# Altium footprint library SparkFun-Connectors.PCBLIB: 379 footprints (part 15 of 24)
Each footprint in its own frame and in the unit in brackets; x right, y up, seen from the top. Pads: shape width x height; smd on the part's side, far side on the other; paste and mask are expansions set on the pad; w line width, h text height; cw(c..) or ccw(c..) is an arc to the next point about the centre after c.
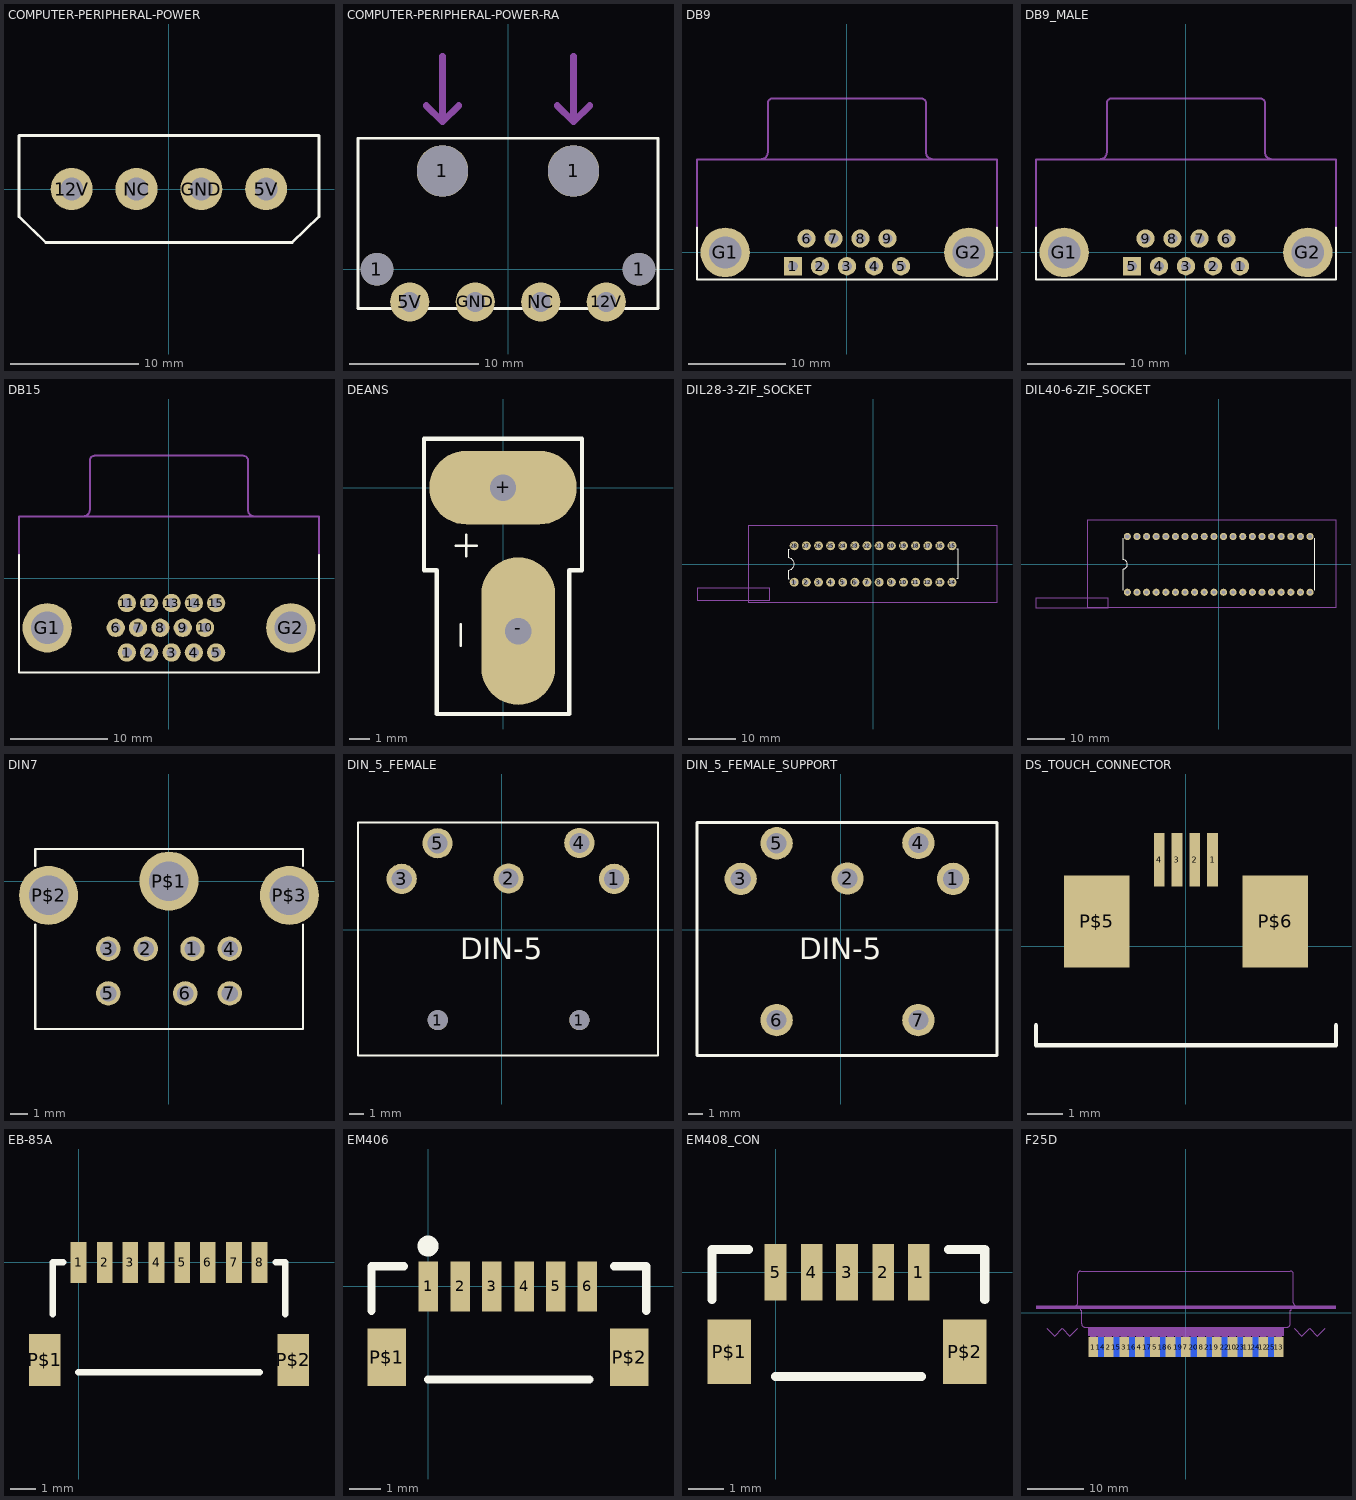
[diagram p14: the footprints below, top view; thin cyan lines are the x and y axes]

## COMPUTER-PERIPHERAL-POWER [mil]
pads (4):
  round 130 hole 70: 5V(300,0) 12V(-300,0) GND(100,0) NC(-100,0)
Top Overlay:
  lines w8: -462.5,-85 -380,-165 380,-165 463,-85 463,165 -462.5,165 -462.5,-85

## COMPUTER-PERIPHERAL-POWER-RA [mil]
pads (8):
  round 100 hole 100: 1(-400,0) 1(400,0)
  round 157 hole 157: 1(-200,300) 1(200,300)
  round 120 hole 60: 5V(-300,-100) 12V(300,-100) GND(-100,-100) NC(100,-100)
Top Overlay:
  lines w8: -350,-120 -458,-120 -458,400 458,400 458,-120 350,-120 ; -250,-120 -150,-120 ; -50,-120 50,-120 ; 150,-120 250,-120
Mechanical 16:
  lines w8: -458,-120 458,-120
  lines w20: -250,500 -200,450 ; -200,650 -200,450 ; -150,500 -200,450 ; 150,500 200,450 ; 200,650 200,450 ; 250,500 200,450
  text "INSERT" at -120,525 h77.5

## DB9 [mil]
pads (11):
  rect 74x74 hole 40: 1(-218.11,-55.91)
  round 74 hole 40: 2(-109.06,-55.91) 3(0,-55.91) 4(110,-55.91) 5(219,-55.91) 6(-163.39,56) 7(-54.33,56) 8(55,56) 9(164,56)
  round 200 hole 130: G1(-492.13,0) G2(493,0)
Top Overlay:
  lines w8: -606.3,100 -606.3,-110.24 607,-110.24 607,100
Mechanical 2:
  text ">NAME" at -31.3,104 h24.8
Mechanical 4:
  text ">VALUE" at -27.17,135 h24.8
Mechanical 16:
  lines w8: -606.3,101 -606.3,375 607,375 607,100 ; -345,378 ccw(c-345,403) -320,403 -320,603 cw(c-300,603) -300,623 300,623 cw(c300,603) 320,603 320,403 ccw(c345,403) 345,378

## DB9_MALE [mil]
pads (11):
  round 74 hole 40: 1(219,-55.91) 2(110,-55.91) 3(0,-55.91) 4(-109.06,-55.91) 6(164,56) 7(55,56) 8(-54.33,56) 9(-163.39,56)
  rect 74x74 hole 40: 5(-218.11,-55.91)
  round 200 hole 130: G1(-492.13,0) G2(493,0)
Top Overlay:
  lines w8: -606.3,100 -606.3,-110.24 607,-110.24 607,100
Mechanical 2:
  text ">NAME" at -31.3,104 h24.8
Mechanical 4:
  text ">VALUE" at -27.17,135 h24.8
Mechanical 16:
  lines w8: -606.3,101 -606.3,375 607,375 607,100 ; -345,378 ccw(c-345,403) -320,403 -320,603 cw(c-300,603) -300,623 300,623 cw(c300,603) 320,603 320,403 ccw(c345,403) 345,378

## DB15 [mil]
pads (17):
  round 74 hole 40: 1(-170.08,-300) 2(-79.92,-300) 3(11,-300) 4(101,-300) 5(191,-300) 6(-214.96,-200) 7(-124.8,-200) 8(-34.65,-200) 9(56,-200) 10(146,-200) 11(-170.08,-100) 12(-79.92,-100) 13(11,-100) 14(101,-100) 15(191,-100)
  round 200 hole 130: G1(-492.13,-200) G2(493,-200)
Top Overlay:
  lines w8: -606.3,94 -606.3,-379.92 607,-379.92 607,94
Mechanical 2:
  text ">NAME" at -31.3,-46.85 h24.8
Mechanical 4:
  text ">VALUE" at -27.17,-15.55 h24.8
Mechanical 16:
  lines w8: -606.3,94 -606.3,250 607,250 607,94 ; -345,251 ccw(c-345,276) -320,276 -320,476 cw(c-300,476) -300,496 300,496 cw(c300,476) 320,476 320,276 ccw(c345,276) 345,251

## DEANS [mil]
pads (2):
  oval 280x140 hole 50: +(0,0)
  oval 140x280 hole 50: -(29,-272.5)
Top Overlay:
  lines w5: -90,-110 -50,-110 ; -80,-300 -80,-260 ; -70,-130 -70,-90
  lines w8: -150,-157 -150,93 150,93 150,-157 126,-157 126,-430 -126,-430 -126,-157 -150,-157
Mechanical 1:
  lines w5: -112,-27 112,-27 112,27 -112,27 -112,-27 ; 2,-384 2,-160 56,-160 56,-384 2,-384

## DIL28-3-ZIF_SOCKET [mil]
pads (28):
  round 74 hole 40: 1(-650,-150) 2(-550,-150) 3(-450,-150) 4(-350,-150) 5(-250,-150) 6(-150,-150) 7(-50,-150) 8(50,-150) 9(150,-150) 10(250,-150) 11(350,-150) 12(450,-150) 13(550,-150) 14(650,-150) 15(650,150) 16(550,150) 17(450,150) 18(350,150) 19(250,150) 20(150,150) 21(50,150) 22(-50,150) 23(-150,150) 24(-250,150) 25(-350,150) 26(-450,150) 27(-550,150) 28(-650,150)
Top Overlay:
  lines w8: -690,-120 -700,-120 -700,-50 ccw(c-700,0) -700,50 -700,120 -690,120 ; 690,-120 700,-120 700,120 690,120
Mechanical 2:
  text ">NAME" at -600,0 h37.2
Mechanical 4:
  text ">VALUE" at -600,-50 h37.2
Mechanical 16:
  lines w5: -1027.99,-314.96 1020,-314.96 1020,315 -1027.99,315 -1027.99,-314.96
  lines w10: -1450,-300 -1450,-200 -850,-200 -850,-300 -1450,-300

## DIL40-6-ZIF_SOCKET [mil]
pads (40):
  round 74 hole 40: 1(-950,-290) 2(-850,-290) 3(-750,-290) 4(-650,-290) 5(-550,-290) 6(-450,-290) 7(-350,-290) 8(-250,-290) 9(-150,-290) 10(-50,-290) 11(50,-290) 12(150,-290) 13(250,-290) 14(350,-290) 15(450,-290) 16(550,-290) 17(650,-290) 18(750,-290) 19(850,-290) 20(950,-290) 21(950,290) 22(850,290) 23(750,290) 24(650,290) 25(550,290) 26(450,290) 27(350,290) 28(250,290)
  round 74 hole 44: 29(150,290) 30(50,290) 31(-50,290) 32(-150,290) 33(-250,290) 34(-350,290) 35(-450,290) 36(-550,290) 37(-650,290) 38(-750,290) 39(-850,290) 40(-950,290)
Top Overlay:
  lines w8: -1000,-270 -1000,-50 ccw(c-1000,0) -1000,50 -1000,270 ; 1000,-270 1000,270
Mechanical 2:
  text ">NAME" at -900,0 h37.2
Mechanical 4:
  text ">VALUE" at -900,-50 h37.2
Mechanical 16:
  lines w10: -1900,-450 -1900,-350 -1150,-350 -1150,-450 -1900,-450 ; -1368.58,-448.07 1220,-448.07 1220,458 -1368.58,458 -1368.58,-448.07

## DIN7 [mil]
pads (10):
  round 54 hole 36: 1(52,-149.61) 2(-51.18,-149.61) 3(-133.86,-149.61) 4(134,-149.61) 5(-133.86,-248.03) 6(36,-248.03) 7(134,-248.03)
  round 130.5 hole 87: P$1(0,0) P$2(-265.75,-31.5) P$3(266,-31.5)
Top Overlay:
  lines w5: -295.28,-96.46 -295.28,-326.77 296,-326.77 296,-96.46 ; -295.28,34 -295.28,71 296,71 296,34

## DIN_5_FEMALE [mil]
pads (7):
  round 56 hole 56: 1(-177.95,-251.18) 1(216,-251.18)
  round 84 hole 56: 1(313,142) 2(19,143) 3(-278.35,142) 4(216,242) 5(-178.35,241)
Top Overlay:
  lines w5: -400,-350 435,-350 435,299 -400,299 -400,-350
  text "DIN-5" at -115.75,-100.79 h102.3
Mechanical 16:
  lines w4: 18,142 19,142

## DIN_5_FEMALE_SUPPORT [mil]
pads (7):
  round 90 hole 56: 1(313,142) 2(19,143) 3(-278.35,142) 4(216,242) 5(-178.35,241) 6(-178.35,-251.27) 7(216,-251.27)
Top Overlay:
  lines w8: -400,-350 435,-350 435,299 -400,299 -400,-350
  text "DIN-5" at -115.75,-100.79 h102.3
Mechanical 16:
  lines w4: 18,142 19,142

## DS_TOUCH_CONNECTOR [mil]
pads (6):
  rect 12x60 smd: 1(30,97) 2(10,97) 3(-9.84,97) 4(-29.53,97)
  rect 73x103 smd: P$5(-99.41,28) P$6(100,28)
Top Overlay:
  lines w5: -167.32,-87.8 -167.32,-110.24 168,-110.24 168,-87.8
Mechanical 2:
  text ">NAME" at -153.35,-137.2 h24.8
Mechanical 4:
  text ">VALUE" at -154.13,-98.43 h24.8

## EB-85A [mil]
pads (10):
  rect 24x62 smd: 1(0,0) 2(40,0) 3(79,0) 4(119,0) 5(158,0) 6(197,0) 7(237,0) 8(276,0)
  rect 48x79 smd: P$1(-51.18,-148.62) P$2(327,-148.62)
Top Overlay:
  lines w10: -39.37,-78.74 -39.37,0 -23.62,0 ; 0,-167.32 276,-167.32 ; 301,0 315,0 315,-78.74
Mechanical 2:
  text ">Name" at 0,50 h24.8
Mechanical 4:
  text ">VALUE" at 150,50 h24.8

## EM406 [mil]
pads (8):
  rect 24x62 smd: 1(0,0) 2(40,0) 3(79,0) 4(119,0) 5(158,0) 6(197,0)
  rect 48x71 smd: P$1(-51.18,-87.6) P$2(249,-87.6)
Top Overlay:
  circle w16: c0,50 r5
  lines w10: -70,-30 -70,25 -30,25 ; 0,-115 200,-115 ; 230,25 270,25 270,-30
Mechanical 2:
  text ">Name" at 50,50 h24.8
Mechanical 4:
  text ">VALUE" at 50,-150 h24.8

## EM408_CON [mil]
pads (7):
  rect 24x62 smd: 1(158,0) 2(119,0) 3(79,0) 4(40,0) 5(0,0)
  rect 48x71 smd: P$1(-51.18,-87.6) P$2(209,-87.6)
Top Overlay:
  lines w10: -70,-30 -70,25 -30,25 ; 0,-115 161,-115 ; 191,25 231,25 231,-30
Mechanical 2:
  text ">NAME" at -50,50 h24.8
Mechanical 4:
  text ">VALUE" at 100,50 h24.8

## F25D [mil]
pads (25):
  rect 67x138 smd: 1(-648.01,-237.98) 2(-540,-237.99) 3(-431.99,-237.98) 4(-324.01,-237.98) 5(-215.99,-237.98) 6(-108.01,-237.98) 7(0,-237.99) 8(109,-237.98) 9(216,-237.98) 10(325,-237.98) 11(432,-237.98) 12(540,-237.99) 13(649,-237.98)
  rect 67x138 smd far side: 14(-594,-238) 15(-486,-238) 16(-378,-238) 17(-270,-238) 18(-162,-238) 19(-54,-238) 20(54,-238) 21(162,-238) 22(270,-238) 23(378,-238) 24(486,-238) 25(594,-238)
Bottom Overlay:
  text "25" at 627,-32.48 h77.5
  text "14" at -553.13,-32.48 h77.5
Mechanical 2:
  text ">NAME" at -250,-350 h24.8
Mechanical 4:
  text ">VALUE" at -50,-350 h24.8
Mechanical 13:
  lines w0: -972,-108 -918,-162 -864,-108 -810,-162 -756,-108 ; 756,-108 810,-162 864,-108 918,-162 972,-108
  text "Board" at 774,-100 h77.5
  text "Board" at -974,-100 h77.5
Mechanical 16:
  rectangle: -671.62,-258.27 -624.38,-159.84
  rectangle: -563.62,-258.27 -516.38,-159.84
  rectangle: -455.62,-258.27 -408.38,-159.84
  rectangle: -347.62,-258.27 -300.38,-159.84
  rectangle: -239.62,-258.27 -192.38,-159.84
  rectangle: -131.62,-258.27 -84.38,-159.84
  rectangle: -23.62,-258.27 24,-159.84
  rectangle: 85,-258.27 132,-159.84
  rectangle: -1047.24,28 1048,52
  rectangle: -685.04,-161.42 686,-98.43
  rectangle: 193,-258.27 240,-159.84
  rectangle: 301,-258.27 348,-159.84
  rectangle: 409,-258.27 456,-159.84
  rectangle: 517,-258.27 564,-159.84
  rectangle: 625,-258.27 672,-159.84
  lines w6: -780,48 ccw(c-780,73) -755,73 -755,273 cw(c-735,273) -735,293 730,293 cw(c730,273) 750,273 750,73 ccw(c775,73) 775,48 ; -734,40 -734,20 -729,20 -729,-75 ccw(c-704,-75) -704,-100 ; -704.76,-100 705,-100 ; 704,-100 ccw(c704,-75) 729,-75 729,20 734,20 734,40
  text "1" at -665.07,-85.77 h77.5
  text "F25D" at -678,181 h77.5
  text "13" at 613,-81.83 h77.5
Mechanical 30:
  rectangle: -617.62,-258.27 -570.38,-159.84
  rectangle: -509.62,-258.27 -462.38,-159.84
  rectangle: -401.62,-258.27 -354.38,-159.84
  rectangle: -293.62,-258.27 -246.38,-159.84
  rectangle: -185.62,-258.27 -138.38,-159.84
  rectangle: -77.62,-258.27 -30.38,-159.84
  rectangle: 31,-258.27 78,-159.84
  rectangle: 139,-258.27 186,-159.84
  rectangle: 247,-258.27 294,-159.84
  rectangle: 355,-258.27 402,-159.84
  rectangle: 463,-258.27 510,-159.84
  rectangle: 571,-258.27 618,-159.84